# Altium schematic symbol library C3225X7R1H106M250AC.SchLib: 1 symbol
Pins are listed as number, name and electrical type; pins without a type are passive.

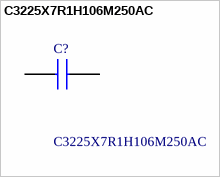
[diagram p0: symbol C3225X7R1H106M250AC]

## C3225X7R1H106M250AC
designator C?
TDK 1210 C 10uF Ceramic Multilayer Capacitor, 50 V dc, +125C, X7R Dielectric, +/-20%; Geometry.Height: 2.3mm; Manufacturer_Name: TDK; Manufacturer_Part_Number: C3225X7R1H106M250AC; Mouser Part Number: 810-C3225X7R1H106MAC; Mouser Price/Stock: https://www.mouser.co.uk/ProductDetail/TDK/C3225X7R1H106M250AC?qs=6JAMGB%252BEdkwY95l8JqNSnw%3D%3D; Arrow Part Number: C3225X7R1H106M250AC; Arrow Price/Stock: https://www.arrow.com/en/products/c3225x7r1h106m250ac/tdk?region=nac; Datasheet Link: https://product.tdk.com/info/en/catalog/datasheets/mlcc_commercial_midvoltage_en.pdf
footprint CAPC3225X230N
pins: 1, 2